# Altium footprint library Conector_Raspberry.PcbLib: 3 footprints
Each footprint in its own frame and in the unit in brackets; x right, y up, seen from the top. Pads: shape width x height; smd on the part's side, far side on the other; paste and mask are expansions set on the pad; w line width, h text height; cw(c..) or ccw(c..) is an arc to the next point about the centre after c.
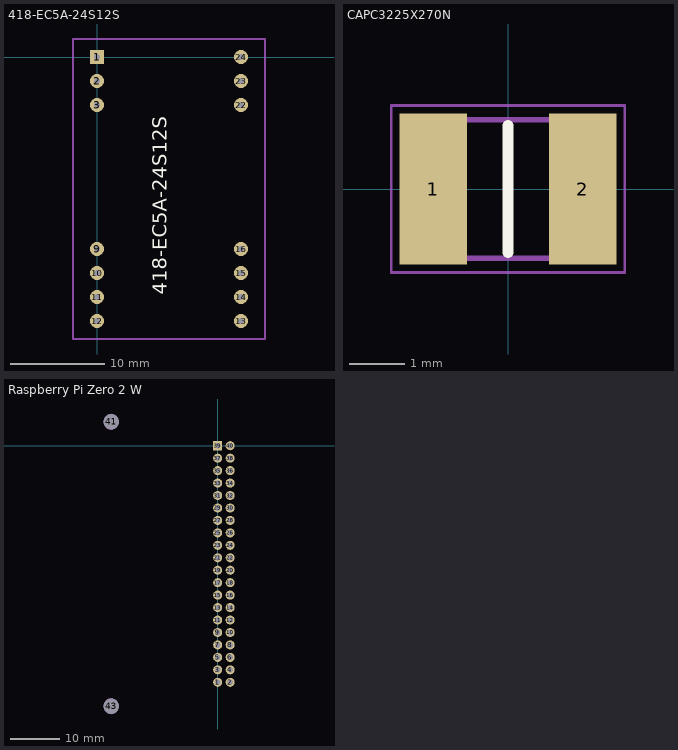
[diagram p0: the footprints below, top view; thin cyan lines are the x and y axes]

## 418-EC5A-24S12S [mm]
pads (14):
  rect 1.5x1.5 hole 0.6: 1(0,0)
  round 1.5 hole 0.6: 2(0,-2.54) 3(0,-5.08) 9(0,-20.32) 10(0,-22.86) 11(0,-25.4) 12(0,-27.94) 13(15.24,-27.94) 14(15.24,-25.4) 15(15.24,-22.86) 16(15.24,-20.32) 22(15.24,-5.08) 23(15.24,-2.54) 24(15.24,0)
Top Overlay:
  text "418-EC5A-24S12S" at 7.366,-25.146 h1.52
Mechanical 1:
  lines w0.254: -2.54,-29.845 17.78,-29.845 17.78,1.905 -2.54,1.905 -2.54,-29.845
3D body "CONVERTIDOR CC CC v3.step": height 10.2, standoff -3.8, extent -2.52,-29.87 17.78,1.93

## CAPC3225X270N [mm]
pads (2):
  rect 1.22x2.72 smd: 1(-1.35,0) 2(1.35,0)
Top Overlay:
  lines w0.2: 0,-1.15 0,1.15
Mechanical 13:
  lines w0.1: -1.6,-1.25 -1.6,1.25 1.6,1.25 1.6,-1.25 -1.6,-1.25
Mechanical 15:
  lines w0.05: -2.11,-1.51 -2.11,1.51 2.11,1.51 2.11,-1.51 -2.11,-1.51
3D body "MSASU32MSB5106KPNA01.stp": height 2.7, standoff 0, extent -1.6,-1.25 1.6,1.25

## Raspberry Pi Zero 2 W [mm]
pads (42):
  round 1.85 hole 1.15: 1(0,-48.26) 2(2.54,-48.26) 3(0,-45.72) 4(2.54,-45.72) 5(0,-43.18) 6(2.54,-43.18) 7(0,-40.64) 8(2.54,-40.64) 9(0,-38.1) 10(2.54,-38.1) 11(0,-35.56) 12(2.54,-35.56) 13(0,-33.02) 14(2.54,-33.02) 15(0,-30.48) 16(2.54,-30.48) 17(0,-27.94) 18(2.54,-27.94) 19(0,-25.4) 20(2.54,-25.4) 21(0,-22.86) 22(2.54,-22.86) 23(0,-20.32) 24(2.54,-20.32) 25(0,-17.78) 26(2.54,-17.78) 27(0,-15.24) 28(2.54,-15.24) 29(0,-12.7) 30(2.54,-12.7) 31(0,-10.16) 32(2.54,-10.16) 33(0,-7.62) 34(2.54,-7.62) 35(0,-5.08) 36(2.54,-5.08) 37(0,-2.54) 38(2.54,-2.54) 40(2.54,0)
  rect 1.85x1.85 hole 1.15: 39(0,0)
  round 3 hole 3.2: 41(-21.73,4.871) 43(-21.73,-53.129)
Mechanical 1:
  circle w0.254: c-21.73,4.871 r1.5
  circle w0.254: c-21.73,-53.129 r1.5
3D body "PiZero v2.step": height 5.39, standoff -14.47, extent -25.854,-56.656 4.746,8.344